# Altium schematic symbol library TXS0104EDG4.SchLib: 1 symbol
Pins are listed as number, name and electrical type; pins without a type are passive.

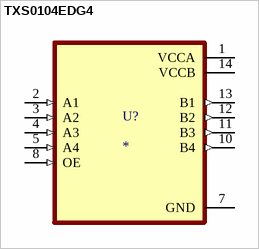
[diagram p0: symbol TXS0104EDG4]

## TXS0104EDG4
designator U?
4-Bit Bidirectional Voltage-Level Shifter for Open-Drain and Push-Pull Applications 14-SOIC -40 to 85; MP: TXS0104EDG4; MF: Texas Instruments; Value: *; Availability: In Stock; SnapEDA_Link: https://www.snapeda.com/parts/TXS0104EDG4/Texas+Instruments/view-part/?ref=snap; Purchase-URL: https://pricing.snapeda.com/search/part/TXS0104EDG4/?ref=eda; Check_prices: https://www.snapeda.com/parts/TXS0104EDG4/Texas+Instruments/view-part/?ref=eda; Price: None; Package: SOIC-14 Texas Instruments
footprint SOIC127P600X175-14N
pins: 1 VCCA (power), 2 A1 (in), 3 A2 (in), 4 A3 (in), 5 A4 (in), 7 GND (power), 8 OE (in), 10 B4 (out), 11 B3 (out), 12 B2 (out), 13 B1 (out), 14 VCCB (power)